# EAGLE library part LTC2943 (library chips)
Multicell Battery Gas Gauge with Temperature, Voltage and Current Measurement
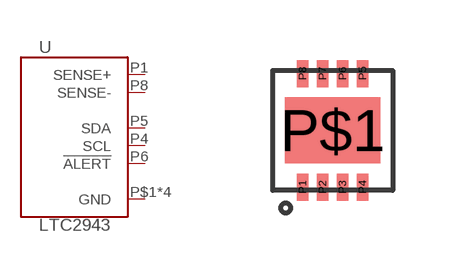
[diagram p73: symbol with the pads of DFN-8; footprint DFN-8]

Designator prefix U

## LTC2943 (DIGIKEY: LTC2943IDD#PBF-ND)  [DFN-8]
P1  SENSE+  oc
P2  GND  oc
P3  GND  oc
P4  SCL  oc
P5  SDA  oc
P6  !ALERT  oc
P7  GND  oc
P8  SENSE-  oc
P$1  GND  oc

## Footprint DFN-8 (pad centres in mm)
smd 0.28 x 0.675: P1 -0.75,-1.42; P2 -0.25,-1.42; P3 0.25,-1.42; P4 0.75,-1.42; P5 0.75,1.42; P6 0.25,1.42; P7 -0.25,1.42; P8 -0.75,1.42
smd 2.38 x 1.65: P$1 0,0